# Altium schematic symbol library SCH - ARM CORTEX - STM STM32G031C(4-6-8)Ux.SchLib: 1 symbol
Pins are listed as number, name and electrical type; pins without a type are passive.

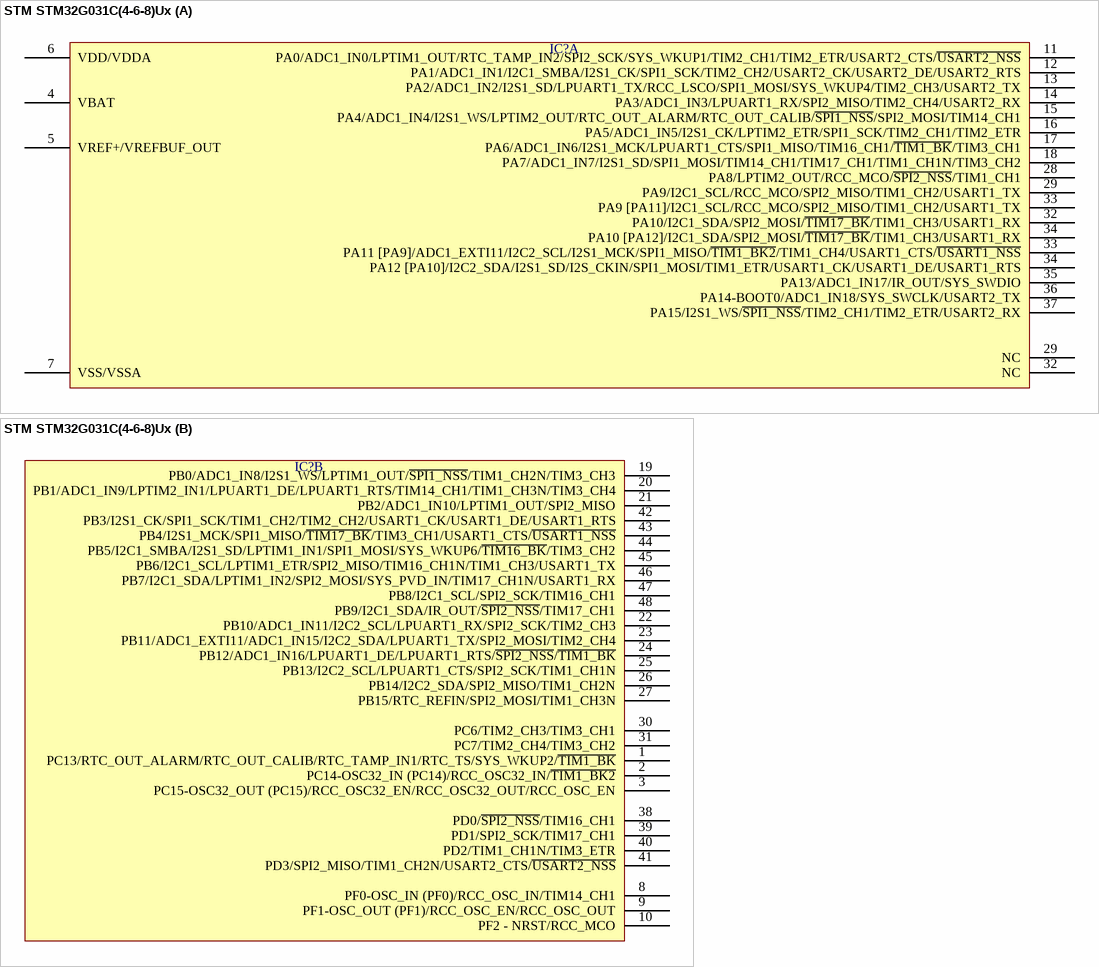
[diagram p0: symbol STM STM32G031C(4-6-8)Ux]

## STM STM32G031C(4-6-8)Ux
designator IC?  (value not drawn)
part A pins: 4 VBAT, 5 VREF+/VREFBUF_OUT, 6 VDD/VDDA, 7 VSS/VSSA, 11 PA0/ADC1_IN0/LPTIM1_OUT/RTC_TAMP_IN2/SPI2_SCK/SYS_WKUP1/TIM2_CH1/TIM2_ETR/USART2_CTS/~{USART2_NSS}, 12 PA1/ADC1_IN1/I2C1_SMBA/I2S1_CK/SPI1_SCK/TIM2_CH2/USART2_CK/USART2_DE/USART2_RTS, 13 PA2/ADC1_IN2/I2S1_SD/LPUART1_TX/RCC_LSCO/SPI1_MOSI/SYS_WKUP4/TIM2_CH3/USART2_TX, 14 PA3/ADC1_IN3/LPUART1_RX/SPI2_MISO/TIM2_CH4/USART2_RX, 15 PA4/ADC1_IN4/I2S1_WS/LPTIM2_OUT/RTC_OUT_ALARM/RTC_OUT_CALIB/~{SPI1_NSS}/SPI2_MOSI/TIM14_CH1, 16 PA5/ADC1_IN5/I2S1_CK/LPTIM2_ETR/SPI1_SCK/TIM2_CH1/TIM2_ETR, 17 PA6/ADC1_IN6/I2S1_MCK/LPUART1_CTS/SPI1_MISO/TIM16_CH1/~{TIM1_BK}/TIM3_CH1, 18 PA7/ADC1_IN7/I2S1_SD/SPI1_MOSI/TIM14_CH1/TIM17_CH1/TIM1_CH1N/TIM3_CH2, 28 PA8/LPTIM2_OUT/RCC_MCO/~{SPI2_NSS}/TIM1_CH1, 29 PA9/I2C1_SCL/RCC_MCO/SPI2_MISO/TIM1_CH2/USART1_TX, 29 NC, 32 PA10/I2C1_SDA/SPI2_MOSI/~{TIM17_BK}/TIM1_CH3/USART1_RX, 32 NC, 33 PA9 [PA11]/I2C1_SCL/RCC_MCO/SPI2_MISO/TIM1_CH2/USART1_TX, 33 PA11 [PA9]/ADC1_EXTI11/I2C2_SCL/I2S1_MCK/SPI1_MISO/~{TIM1_BK2}/TIM1_CH4/USART1_CTS/~{USART1_NSS}, 34 PA10 [PA12]/I2C1_SDA/SPI2_MOSI/~{TIM17_BK}/TIM1_CH3/USART1_RX, 34 PA12 [PA10]/I2C2_SDA/I2S1_SD/I2S_CKIN/SPI1_MOSI/TIM1_ETR/USART1_CK/USART1_DE/USART1_RTS, 35 PA13/ADC1_IN17/IR_OUT/SYS_SWDIO, 36 PA14-BOOT0/ADC1_IN18/SYS_SWCLK/USART2_TX, 37 PA15/I2S1_WS/~{SPI1_NSS}/TIM2_CH1/TIM2_ETR/USART2_RX
part B pins: 1 PC13/RTC_OUT_ALARM/RTC_OUT_CALIB/RTC_TAMP_IN1/RTC_TS/SYS_WKUP2/~{TIM1_BK}, 2 PC14-OSC32_IN (PC14)/RCC_OSC32_IN/~{TIM1_BK2}, 3 PC15-OSC32_OUT (PC15)/RCC_OSC32_EN/RCC_OSC32_OUT/RCC_OSC_EN, 8 PF0-OSC_IN (PF0)/RCC_OSC_IN/TIM14_CH1, 9 PF1-OSC_OUT (PF1)/RCC_OSC_EN/RCC_OSC_OUT, 10 PF2 - NRST/RCC_MCO, 19 PB0/ADC1_IN8/I2S1_WS/LPTIM1_OUT/~{SPI1_NSS}/TIM1_CH2N/TIM3_CH3, 20 PB1/ADC1_IN9/LPTIM2_IN1/LPUART1_DE/LPUART1_RTS/TIM14_CH1/TIM1_CH3N/TIM3_CH4, 21 PB2/ADC1_IN10/LPTIM1_OUT/SPI2_MISO, 22 PB10/ADC1_IN11/I2C2_SCL/LPUART1_RX/SPI2_SCK/TIM2_CH3, 23 PB11/ADC1_EXTI11/ADC1_IN15/I2C2_SDA/LPUART1_TX/SPI2_MOSI/TIM2_CH4, 24 PB12/ADC1_IN16/LPUART1_DE/LPUART1_RTS/~{SPI2_NSS}/~{TIM1_BK}, 25 PB13/I2C2_SCL/LPUART1_CTS/SPI2_SCK/TIM1_CH1N, 26 PB14/I2C2_SDA/SPI2_MISO/TIM1_CH2N, 27 PB15/RTC_REFIN/SPI2_MOSI/TIM1_CH3N, 30 PC6/TIM2_CH3/TIM3_CH1, 31 PC7/TIM2_CH4/TIM3_CH2, 38 PD0/~{SPI2_NSS}/TIM16_CH1, 39 PD1/SPI2_SCK/TIM17_CH1, 40 PD2/TIM1_CH1N/TIM3_ETR, 41 PD3/SPI2_MISO/TIM1_CH2N/USART2_CTS/~{USART2_NSS}, 42 PB3/I2S1_CK/SPI1_SCK/TIM1_CH2/TIM2_CH2/USART1_CK/USART1_DE/USART1_RTS, 43 PB4/I2S1_MCK/SPI1_MISO/~{TIM17_BK}/TIM3_CH1/USART1_CTS/~{USART1_NSS}, 44 PB5/I2C1_SMBA/I2S1_SD/LPTIM1_IN1/SPI1_MOSI/SYS_WKUP6/~{TIM16_BK}/TIM3_CH2, 45 PB6/I2C1_SCL/LPTIM1_ETR/SPI2_MISO/TIM16_CH1N/TIM1_CH3/USART1_TX, 46 PB7/I2C1_SDA/LPTIM1_IN2/SPI2_MOSI/SYS_PVD_IN/TIM17_CH1N/USART1_RX, 47 PB8/I2C1_SCL/SPI2_SCK/TIM16_CH1, 48 PB9/I2C1_SDA/IR_OUT/~{SPI2_NSS}/TIM17_CH1